# Altium footprint library DIY-USB Led Controller.PcbLib: 26 footprints (part 1 of 2)
Each footprint in its own frame and in the unit in brackets; x right, y up, seen from the top. Pads: shape width x height; smd on the part's side, far side on the other; paste and mask are expansions set on the pad; w line width, h text height; cw(c..) or ccw(c..) is an arc to the next point about the centre after c.
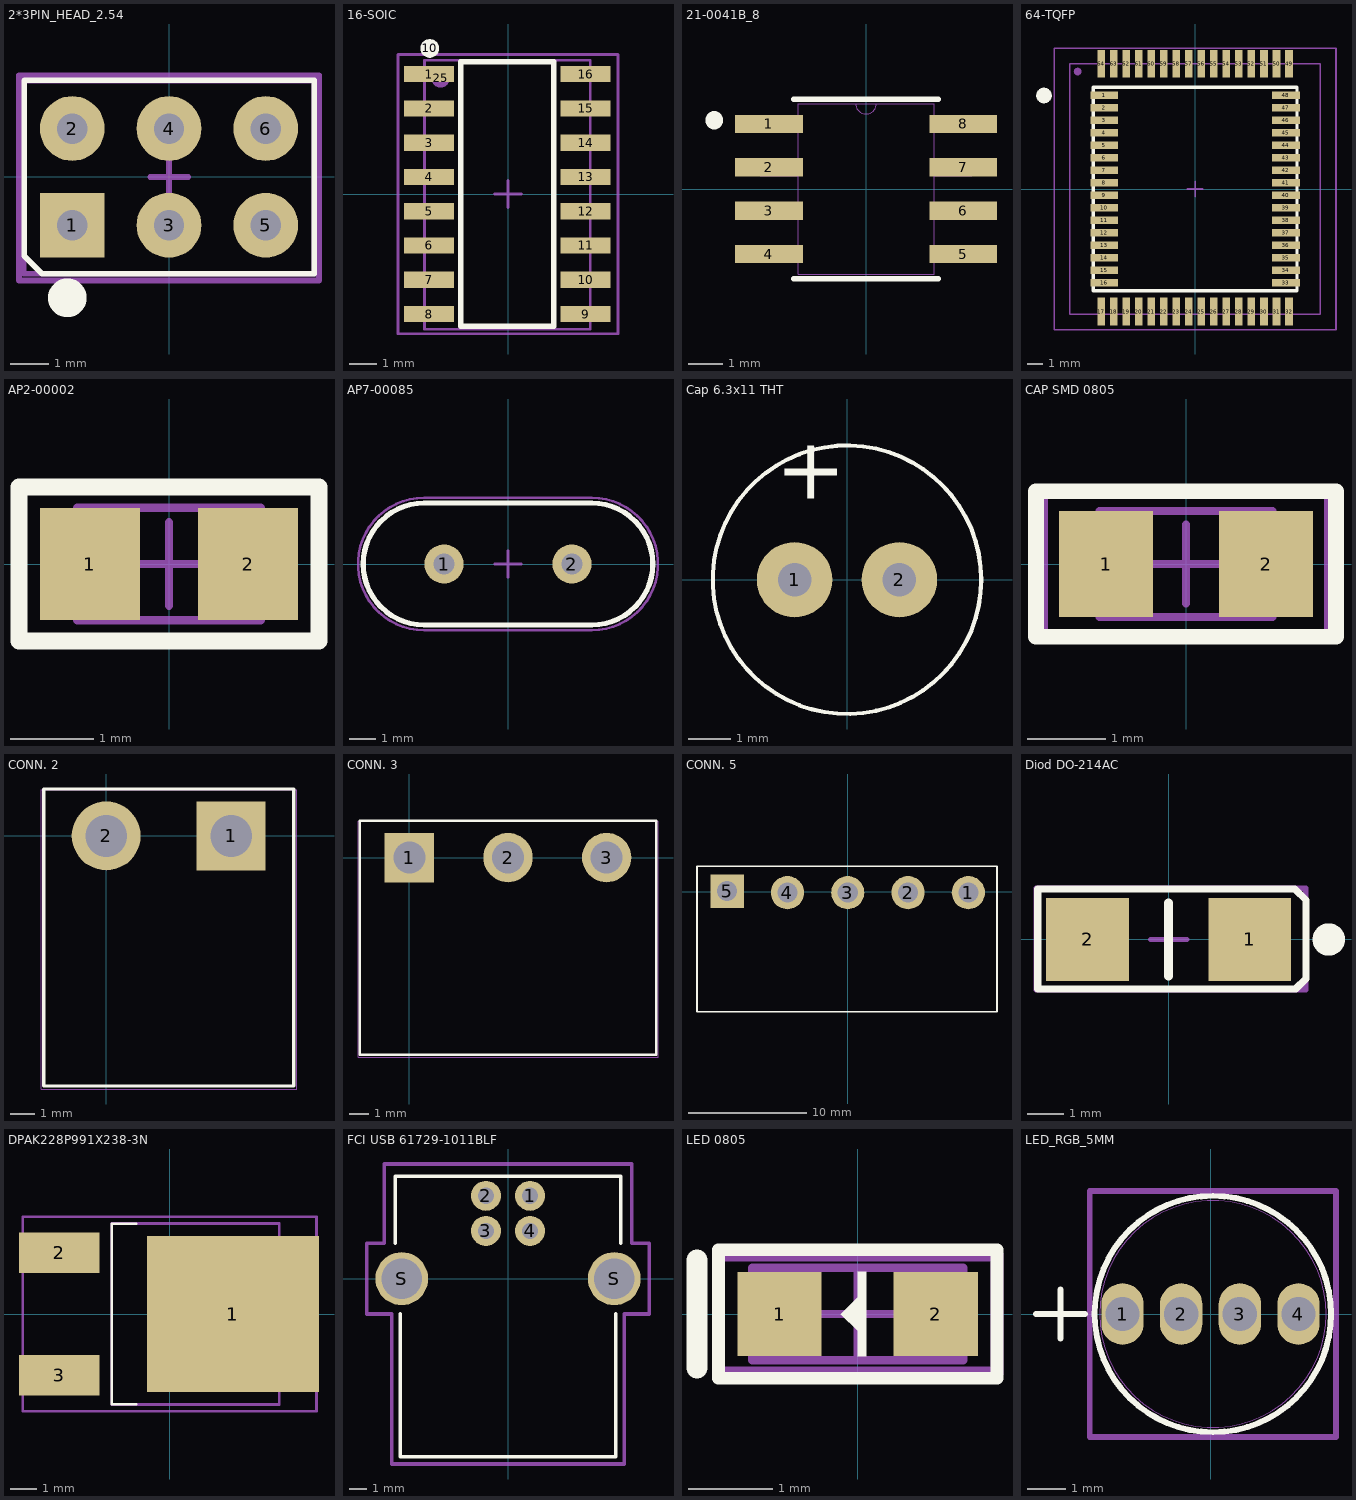
[diagram p0: the footprints below, top view; thin cyan lines are the x and y axes]

## 2*3PIN_HEAD_2.54 [mm]
height 6.34
pads (12):
  rect 1.7x1.7 / inner round 1.7 / far side rect 1.7x1.7 hole 0.8: 1(-2.54,-1.27)
  rect 0x0 on Top Paste paste-2: 1(-2.54,-1.27) 2(-2.54,1.27) 3(0,-1.27) 4(0,1.27) 5(2.54,-1.27) 6(2.54,1.27)
  round 1.7 hole 0.8: 2(-2.54,1.27) 3(0,-1.27) 4(0,1.27) 5(2.54,-1.27) 6(2.54,1.27)
Top Overlay:
  circle w0.762: c-2.667,-3.175 r0.127
  lines w0.15: -3.8,-2.075 -3.335,-2.54 3.81,-2.54 3.81,2.54 -3.785,2.54 -3.8,2.525 -3.8,-2.075
Mechanical 13:
  lines w0.15: -3.81,-2.54 3.81,-2.54 3.81,2.532 -3.81,2.532 -3.81,-2.54
Mechanical 15:
  lines w0.15: -0.495,0 0.505,0 ; -3.937,-2.718 3.937,-2.718 3.937,2.667 -3.937,2.667 -3.937,-2.718 ; 0,-0.5 0,0.5 0,-0.5
3D body: height 8, standoff -3, extent -0.3,0.975 0.3,1.575
3D body: height 8, standoff -3, extent -0.3,-1.575 0.3,-0.975
3D body: height 8, standoff -3, extent 2.25,0.975 2.85,1.575
3D body: height 8, standoff -3, extent 2.25,-1.575 2.85,-0.975
3D body: height 8, standoff -3, extent -2.85,0.975 -2.25,1.575
3D body: height 8, standoff -3, extent -2.85,-1.575 -2.25,-0.975
3D body: height 1.1, standoff 0, extent -3.81,-2.54 3.81,2.54

## 16-SOIC [mm]
height 2.65
pads (18):
  rect 1.85x0.6 smd: 1(-2.925,4.448) 2(-2.925,3.178) 3(-2.925,1.908) 4(-2.925,0.638) 5(-2.925,-0.632) 6(-2.925,-1.902) 7(-2.925,-3.172) 8(-2.925,-4.442) 9(2.875,-4.442) 10(2.875,-3.172) 11(2.875,-1.902) 12(2.875,-0.632) 13(2.875,0.638) 14(2.875,1.908) 15(2.875,3.178) 16(2.875,4.448)
  round 0.7 on Top Overlay: 10(-2.9,5.4)
  round 0.7 on Mech1: 25(-2.5,4.3)
Top Overlay:
  lines w0.2: -1.75,-4.9 -1.75,4.9 1.7,4.9 1.7,-4.9 -1.75,-4.9
Mechanical 1:
  lines w0.1: -3.093,-5.01 -3.093,4.96 3.044,4.96 3.044,-5.01 -3.093,-5.01
Mechanical 15:
  lines w0.1: -0.499,0.003 0.501,0.003 ; 0.001,-0.497 0.001,0.503 ; -4.075,-5.175 -4.075,5.175 4.075,5.175 4.075,-5.175 -4.075,-5.175
3D body "User Library-so16-1.STEP": height 1.73, standoff -0.04, extent -3.093,-5.01 3.044,4.96

## 21-0041B_8 [mil]
height 47.24
pads (8):
  rect 78x21 smd: 1(-112,75) 2(-112,25) 3(-112,-25) 4(-112,-75) 5(112,-75) 6(112,-25) 7(112,25) 8(112,75)
Top Overlay:
  lines w6: -83.5,-103.5 83.5,-103.5 ; -83.5,103.5 83.5,103.5
  lines w20: -175.1,78.59 ccw(c-185,80) -175,80
Mechanical 1:
  lines w1: -12,98.5 ccw(c0,98.5) 12,98.5 ; -122,-84.5 -122,-65.5 -78.5,-65.5 -78.5,-84.5 -122,-84.5 ; -122,-34.5 -122,-15.5 -78.5,-15.5 -78.5,-34.5 -122,-34.5 ; -122,15.5 -122,34.5 -78.5,34.5 -78.5,15.5 -122,15.5 ; -122,65.5 -122,84.5 -78.5,84.5 -78.5,65.5 -122,65.5 ; -78.5,-98.5 78.5,-98.5 78.5,98.5 -78.5,98.5 -78.5,-98.5 ; 78.5,-84.5 78.5,-65.5 122,-65.5 122,-84.5 78.5,-84.5 ; 78.5,-34.5 78.5,-15.5 122,-15.5 122,-34.5 78.5,-34.5 ; 78.5,15.5 78.5,34.5 122,34.5 122,15.5 78.5,15.5 ; 78.5,65.5 78.5,84.5 122,84.5 122,65.5 78.5,65.5
  text "*" at -5,55 h98.43
3D body "21-0041B_8-L.stp": height 69.09, standoff 0, extent -122.01,-98.5 122.01,98.5

## 64-TQFP [mil] "SOIC, 4-Leads, Body 4,60x6,50mm, Pitch 1,27mm, IPC Medium Density"
height 157.48
pads (66):
  rect 70x19 smd: 1(-228.35,236.22) 2(-228.35,204.72) 3(-228.35,173.23) 4(-228.35,141.73) 5(-228.35,110.24) 6(-228.35,78.74) 7(-228.35,47.24) 8(-228.35,15.75) 9(-228.35,-15.75) 10(-228.35,-47.24) 11(-228.35,-78.74) 12(-228.35,-110.24) 13(-228.35,-141.73) 14(-228.35,-173.23) 15(-228.35,-204.72) 16(-228.35,-236.22) 33(228.35,-236.22) 34(228.35,-204.72) 35(228.35,-173.23) 36(228.35,-141.73) 37(228.35,-110.24) 38(228.35,-78.74) 39(228.35,-47.24) 40(228.35,-15.75) 41(228.35,15.75) 42(228.35,47.24) 43(228.35,78.74) 44(228.35,110.24) 45(228.35,141.73) 46(228.35,173.23) 47(228.35,204.72) 48(228.35,236.22)
  rect 19x70 smd: 17(-236.22,-308.15) 18(-204.72,-308.15) 19(-173.23,-308.15) 20(-141.73,-308.15) 21(-110.24,-308.15) 22(-78.74,-308.15) 23(-47.24,-308.15) 24(-15.75,-308.15) 25(15.75,-308.15) 26(47.24,-308.15) 27(78.74,-308.15) 28(110.24,-308.15) 29(141.73,-308.15) 30(173.23,-308.15) 31(204.72,-308.15) 32(236.22,-308.15) 49(236.22,314.96) 50(204.72,314.96) 51(173.23,314.96) 52(141.73,314.96) 53(110.24,314.96) 54(78.74,314.96) 55(47.24,314.96) 56(15.75,314.96) 57(-15.75,314.96) 58(-47.24,314.96) 59(-78.74,314.96) 60(-110.24,314.96) 61(-141.73,314.96) 62(-173.23,314.96) 63(-204.72,314.96) 64(-236.22,314.96)
  round 40 on Top Overlay: ""(-380,235)
  round 19.68 on Mech1: ""(-295.28,295.28)
Top Overlay:
  lines w7.87: -255.91,-255.91 255.91,-255.91 255.91,255.91 -255.91,255.91 -255.91,-255.91
Mechanical 1:
  lines w3.94: 314.96,314.96 314.96,-314.96 -314.96,-314.96 -314.96,314.96 314.96,314.96 ; 314.96,314.96 314.96,314.96
Mechanical 15:
  lines w3.94: -19.68,0 19.68,0 ; 0,-19.68 0,19.68 ; -354.33,-354.33 354.33,-354.33 354.33,354.33 -354.33,354.33 -354.33,-354.33

## AP2-00002 [mm]
height 0.6
pads (2):
  rect 1.2x1.35 smd: 1(-0.95,0) 2(0.95,0)
Top Overlay:
  lines w0.2: -1.8,-0.925 1.8,-0.925 1.8,0.925 -1.8,0.925 -1.8,-0.925
Mechanical 13:
  lines w0.1: -1.1,-0.675 -1.1,0.675 1.1,0.675 1.1,-0.675 -1.1,-0.675
Mechanical 15:
  lines w0.1: -0.5,0 0.5,0 ; 0,-0.5 0,0.5 ; -1.8,-0.925 -1.8,0.925 1.8,0.925 1.8,-0.925 -1.8,-0.925
3D body "0805 SMD Resistor.step": height 0.78, standoff 0, extent -1,-0.625 1,0.625

## AP7-00085 [mm]
height 8.51
pads (4):
  round 1.5 hole 0.8: 1(-2.44,0) 2(2.44,0)
  round 1.55 on Top Paste paste+0.7: ""(-2.44,0) ""(2.44,0)
Top Overlay:
  lines w0.2: -3.2,-2.325 cw(c-3.2,0) -3.2,2.325 3.2,2.325 cw(c3.2,0) 3.2,-2.325 -3.2,-2.325
Mechanical 13:
  lines w0.1: -3.2,-2.325 cw(c-3.2,0) -3.2,2.325 3.2,2.325 cw(c3.2,0) 3.2,-2.325 -3.2,-2.325
Mechanical 15:
  lines w0.1: -0.5,0 0.5,0 ; 0,-0.5 0,0.5 ; -3.2,-2.525 cw(c-3.2,0) -3.2,2.525 3.2,2.525 cw(c3.2,0) 3.2,-2.525 -3.2,-2.525
3D body "User Library-HC49S-1.STEP": height 3.6, standoff -3, extent -5.49,-2.245 5.49,2.246

## Cap 6.3x11 THT [mm]
pads (2):
  round 1.8 hole 0.8: 1(-1.25,0) 2(1.25,0)
Top Overlay:
  circle w0.1: c0,0 r3.2
  text "+" at -1.7,1.45 h2.5
3D body "User Library-Cap electrolitic radial 6,3x12.STEP": height 12.8, standoff -0.7, extent -3.149,-3.149 3.149,3.15

## CAP SMD 0805 [mm]
pads (2):
  rect 1.2x1.35 smd: 1(-1.016,0) 2(1.016,0)
Top Overlay:
  lines w0.2: -1.905,-0.925 1.905,-0.925 1.905,0.925 -1.905,0.925 -1.905,-0.925
Mechanical 13:
  lines w0.1: -1.1,-0.675 -1.1,0.675 1.1,0.675 1.1,-0.675 -1.1,-0.675
Mechanical 15:
  lines w0.1: -0.5,0 0.5,0 ; 0,-0.5 0,0.5 ; -1.8,-0.925 -1.8,0.925 1.8,0.925 1.8,-0.925 -1.8,-0.925
3D body "SW3dPS-0805 SMD Capacitor.STEP": height 0.78, standoff 0, extent -1,-0.625 1,0.625

## CONN. 2 [mm]
height 8.128
pads (2):
  rect 2.8x2.8 hole 1.7: 1(5.08,0)
  round 2.8 hole 1.7: 2(0,0)
Top Overlay:
  lines w0.127: -2.54,-10.16 -2.54,1.905 7.62,1.905 7.62,-10.16 -2.54,-10.16
Mechanical 15:
  lines w0.051: -2.642,-10.287 -2.642,1.88 7.747,1.88 7.747,-10.287 -2.642,-10.287
3D body "691312510002.stp": height 8.51, standoff -3.49, extent -2.515,-10.166 7.645,1.834
3D body "691351500002.stp": height 15.22, standoff 0.12, extent -2.667,-19.666 7.593,-1.466

## CONN. 3 [mil]
height 320
pads (3):
  rect 100x100 hole 65: 1(0,0)
  round 100 hole 65: 2(200,0) 3(400,0)
Top Overlay:
  lines w5: -100,-400 -100,75 500,75 500,-400 -100,-400
Mechanical 15:
  lines w2: -104,-405 504,-405 504,74 -104,74 -104,-405
3D body "691312510003.stp": height 335.2, standoff -137.24, extent -101,-401.22 499,71.22
3D body "691351500003.stp": height 599.29, standoff 4.8, extent -104,-772.27 499.94,-55.73

## CONN. 5 [mm]
pads (5):
  round 2.8 hole 1.7: 1(10.16,-0.064) 2(5.08,-0.064) 3(0,-0.064) 4(-5.08,-0.064)
  rect 2.8x2.8 hole 1.7: 5(-10.16,0.063)
Top Overlay:
  lines w0.127: -12.7,-10.097 12.573,-10.097 12.573,2.159 -12.7,2.159 -12.7,-10.097
3D body "691312510005.stp": height 8.65, standoff -3.35, extent -12.7,-9.937 12.7,2.063
3D body "691351500005.stp": height 15.35, standoff 0.25, extent -12.75,-19.514 12.75,-1.314

## Diod DO-214AC [mm]
height 6.34
pads (2):
  rect 2.3x2.3 smd: 1(2.25,0) 2(-2.25,0)
Top Overlay:
  circle w0.5: c4.445,0 r0.2
  lines w0.2: -3.632,-1.372 3.531,-1.372 3.81,-1.092 3.81,1.092 3.505,1.397 -3.632,1.397 -3.632,-1.372
  lines w0.254: 0,-1.016 0,1.016
Mechanical 15:
  lines w0.15: -0.5,0 0.5,0 ; 0,-0.5 0,0.5 ; -3.683,-1.397 3.81,-1.397 3.81,1.422 -3.683,1.422 -3.683,-1.397
3D body "SW3dPS-DO-214AC SMA.STEP": height 2.4, standoff 0, extent -2.6,-1.3 2.6,1.3

## DPAK228P991X238-3N [mm] "D-PAK, 3-Pads, Body 6.21x6.73mm (max), IPC Medium Density"
height 2.38
pads (3):
  rect 6.4x5.8 smd: 1(2.35,0)
  rect 3x1.5 smd: 2(-4.1,2.28) 3(-4.1,-2.28)
Top Overlay:
  lines w0.1: -1.25,-3.35 -2.15,-3.35 -2.15,3.35 -1.25,3.35
Mechanical 13:
  lines w0.1: -2.15,-3.365 4.07,-3.365 4.07,3.365 -2.15,3.365 -2.15,-3.365
Mechanical 15:
  lines w0.1: -0.5,0 0.5,0 ; 0,-0.5 0,0.5 ; -5.455,-3.615 5.455,-3.615 5.455,3.615 -5.455,3.615 -5.455,-3.615
3D body "DPAK228P991X238-3N.step": height 2.51, standoff 0, extent -4.4,-3.375 5.505,3.375

## FCI USB 61729-1011BLF [mm]
height 11
pads (6):
  round 1.7 hole 0.92: 1(1.25,4.7) 2(-1.25,4.7) 3(-1.25,2.71) 4(1.25,2.71)
  round 3 hole 2.3: S(-6.02,0) S(6.02,0)
Top Overlay:
  lines w0.2: -6.4,2 -6.4,5.8 6.4,5.8 6.4,2 ; -6.1,-2 -6.1,-10.1 6.1,-10.1 6.1,-2
Mechanical 15:
  lines w0.2: -8,-2 -6.6,-2 -6.6,-10.5 0,-10.5 6.6,-10.5 6.6,-2 8,-2 8,2 7,2 7,6.5 0,6.5 -7,6.5 -7,2 -8,2 -8,-2
3D body "FCI 61729-1011BLF.STEP": height 11, standoff -2.8, extent -6.56,-10.175 6.56,5.765

## LED 0805 [mm]
pads (2):
  rect 1x1 smd: 1(-0.927,0) 2(0.927,0)
Top Overlay:
  region: 0,0.2 -0.2,0 0,-0.2
  region: 0.1,0.5 0.1,-0.5 0,-0.5 0,0.5
  lines w0.15: -1.651,-0.762 -1.651,0.762 1.651,0.762 1.651,-0.762 -1.651,-0.762
  lines w0.254: -1.905,-0.635 -1.905,0.635
Mechanical 13:
  lines w0.1: -1.25,-0.55 -1.25,0.55 1.25,0.55 1.25,-0.55 -1.25,-0.55
Mechanical 15:
  lines w0.1: -0.5,0 0.5,0 ; 0,-0.5 0,0.5
  lines w0.15: -1.651,-0.7 1.651,-0.7 1.651,0.7 -1.651,0.7 -1.651,-0.7
3D body "LED 0805.STEP": height 1.1, standoff 0, extent -1.01,-0.625 1.01,0.625

## LED_RGB_5MM [mm]
pads (4):
  oval 1.1x1.6 / inner oval 1.143x1.397 / far side oval 1.143x1.397 hole 0.889 mask+0: 1(-2.286,0) 2(-0.762,0) 3(0.762,0) 4(2.286,0)
Top Overlay:
  circle w0.152: c0.062,0 r3.073
  lines w0.152: -4.536,0 -3.266,0 ; -3.901,-0.635 -3.901,0.635
Mechanical 13:
  circle w0: c0.062,0 r2.946
  lines w0.025: -4.536,0 -3.266,0 ; -3.901,-0.635 -3.901,0.635
Mechanical 15:
  lines w0.152: -3.139,-3.2 3.262,-3.2 3.262,3.2 -3.139,3.2 -3.139,-3.2
3D body "WP154A4.STEP": height 8.6, standoff -24.5, extent -2.95,-2.95 2.5,2.95